# EAGLE library part DAC3151 (library texas-instruments)
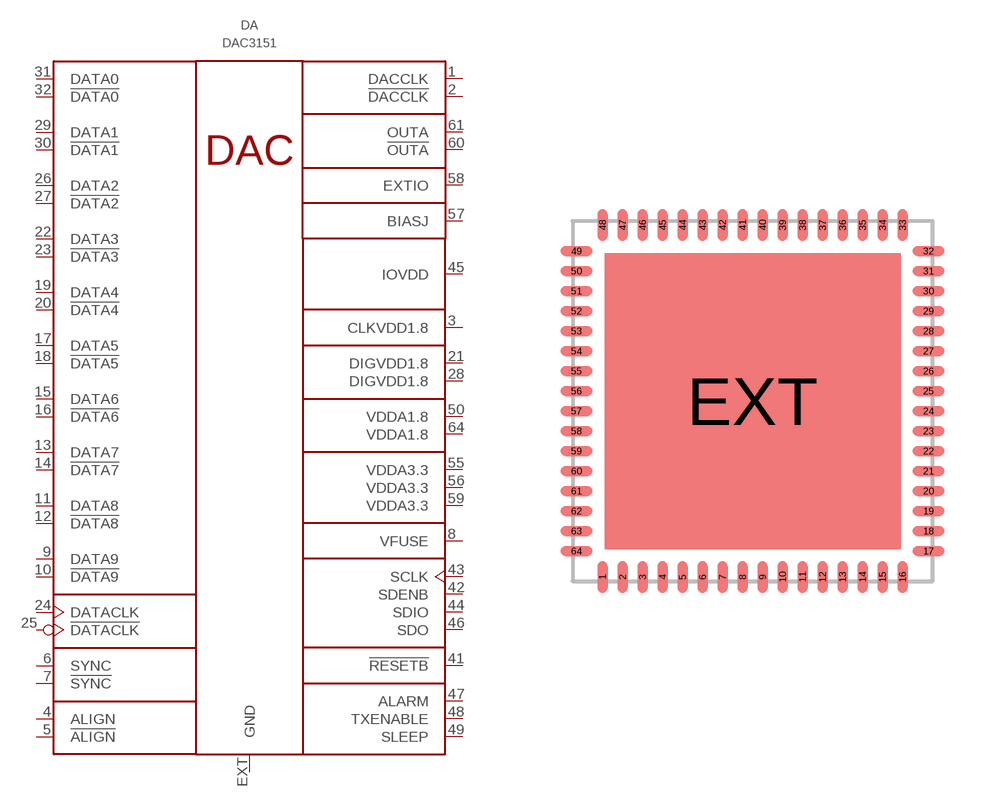
[diagram p12: symbol with the pads of VQFN64; footprint VQFN64]

Designator prefix DA

## DAC3151IRGC  [VQFN64]
1  DACCLK  in
2  !DACCLK  in
3  CLKVDD1.8  pwr
4  ALIGN  out
5  !ALIGN  out
6  SYNC  in
7  !SYNC  in
8  VFUSE  pwr
9  DATA9  in
10  !DATA9  in
11  DATA8  in
12  !DATA8  in
13  DATA7  in
14  !DATA7  in
15  DATA6  in
16  !DATA6  in
17  DATA5  in
18  !DATA5  in
19  DATA4  in
20  !DATA4  in
21  DIGVDD1.8  pwr
22  DATA3  in
23  !DATA3  in
24  DATACLK  in
25  !DATACLK  in
26  DATA2  in
27  !DATA2  in
28  DIGVDD1.8  pwr
29  DATA1  in
30  !DATA1  in
31  DATA0  in
32  !DATA0  in
41  !RESETB  in
42  SDENB  in
43  SCLK  in
44  SDIO
45  IOVDD  pwr
46  SDO  out
47  ALARM  out
48  TXENABLE  in
49  SLEEP  in
50  VDDA1.8  pwr
55  VDDA3.3  pwr
56  VDDA3.3  pwr
57  BIASJ  pas
58  EXTIO
59  VDDA3.3  pwr
60  !OUTA  out
61  OUTA  out
64  VDDA1.8  pwr
EXT  GND  pwr

## Footprint VQFN64 (pad centres in mm)
smd 0.25 x 0.8: 1 -3.75,-4.4; 2 -3.25,-4.4; 3 -2.75,-4.4; 4 -2.25,-4.4; 5 -1.75,-4.4; 6 -1.25,-4.4; 7 -0.75,-4.4; 8 -0.25,-4.4; 9 0.25,-4.4; 10 0.75,-4.4; 11 1.25,-4.4; 12 1.75,-4.4; 13 2.25,-4.4; 14 2.75,-4.4; 15 3.25,-4.4; 16 3.75,-4.4; 33 3.75,4.4; 34 3.25,4.4; 35 2.75,4.4; 36 2.25,4.4; 37 1.75,4.4; 38 1.25,4.4; 39 0.75,4.4; 40 0.25,4.4; 41 -0.25,4.4; 42 -0.75,4.4; 43 -1.25,4.4; 44 -1.75,4.4; 45 -2.25,4.4; 46 -2.75,4.4; 47 -3.25,4.4; 48 -3.75,4.4
smd 0.8 x 0.25: 17 4.4,-3.75; 18 4.4,-3.25; 19 4.4,-2.75; 20 4.4,-2.25; 21 4.4,-1.75; 22 4.4,-1.25; 23 4.4,-0.75; 24 4.4,-0.25; 25 4.4,0.25; 26 4.4,0.75; 27 4.4,1.25; 28 4.4,1.75; 29 4.4,2.25; 30 4.4,2.75; 31 4.4,3.25; 32 4.4,3.75; 49 -4.4,3.75; 50 -4.4,3.25; 51 -4.4,2.75; 52 -4.4,2.25; 53 -4.4,1.75; 54 -4.4,1.25; 55 -4.4,0.75; 56 -4.4,0.25; 57 -4.4,-0.25; 58 -4.4,-0.75; 59 -4.4,-1.25; 60 -4.4,-1.75; 61 -4.4,-2.25; 62 -4.4,-2.75; 63 -4.4,-3.25; 64 -4.4,-3.75
smd 7.4 x 7.4: EXT 0,0